# EAGLE library part TEA5767/68 (library Philips-semiconductors2)
Philips Semiconductors’ digitally tuned TEA5767/68 FM stereo receiver IC is based on an innovative architecture concept that simplifies radio design, significantly reducing the number of external components. Delivering the highest performance levels, this one-chip radio solution occupies minimal PCB area (9x9 mm) making it ideal for all space-critical and low voltage applications such as mobile phones and MP3 players.
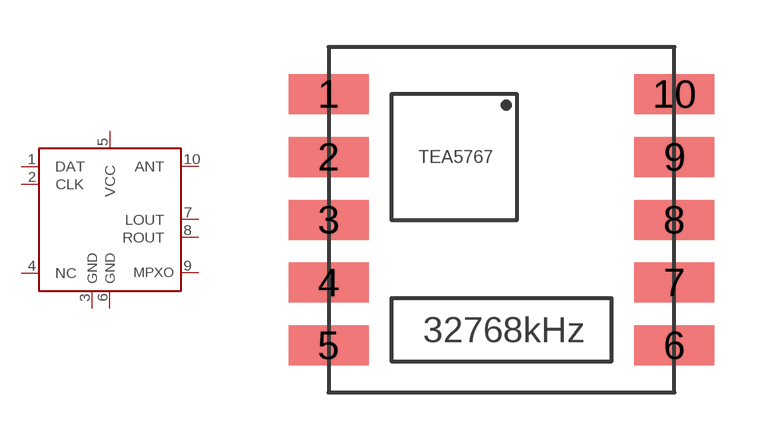
[diagram p21: symbol with the pads of TEA5767; footprint TEA5767]

Designator prefix IC

## TEA5767/68  [TEA5767]
1  DAT
2  CLK
3  GND
4  NC
5  VCC
6  GND2
7  LOUT
8  ROUT
9  GND3
10  ANT

## Footprint TEA5767 (pad centres in mm)
smd 2.54 x 1.27: 1 -5.5,4; 2 -5.5,2; 3 -5.5,0; 4 -5.5,-2; 5 -5.5,-4; 6 5.5,-4; 7 5.5,-2; 8 5.5,0; 9 5.5,2; 10 5.5,4